# Altium footprint library MCU_FOR_DOWNLOAD_V6_1_PCS.PcbLib: 16 footprints
Each footprint in its own frame and in the unit in brackets; x right, y up, seen from the top. Pads: shape width x height; smd on the part's side, far side on the other; paste and mask are expansions set on the pad; w line width, h text height; cw(c..) or ccw(c..) is an arc to the next point about the centre after c.
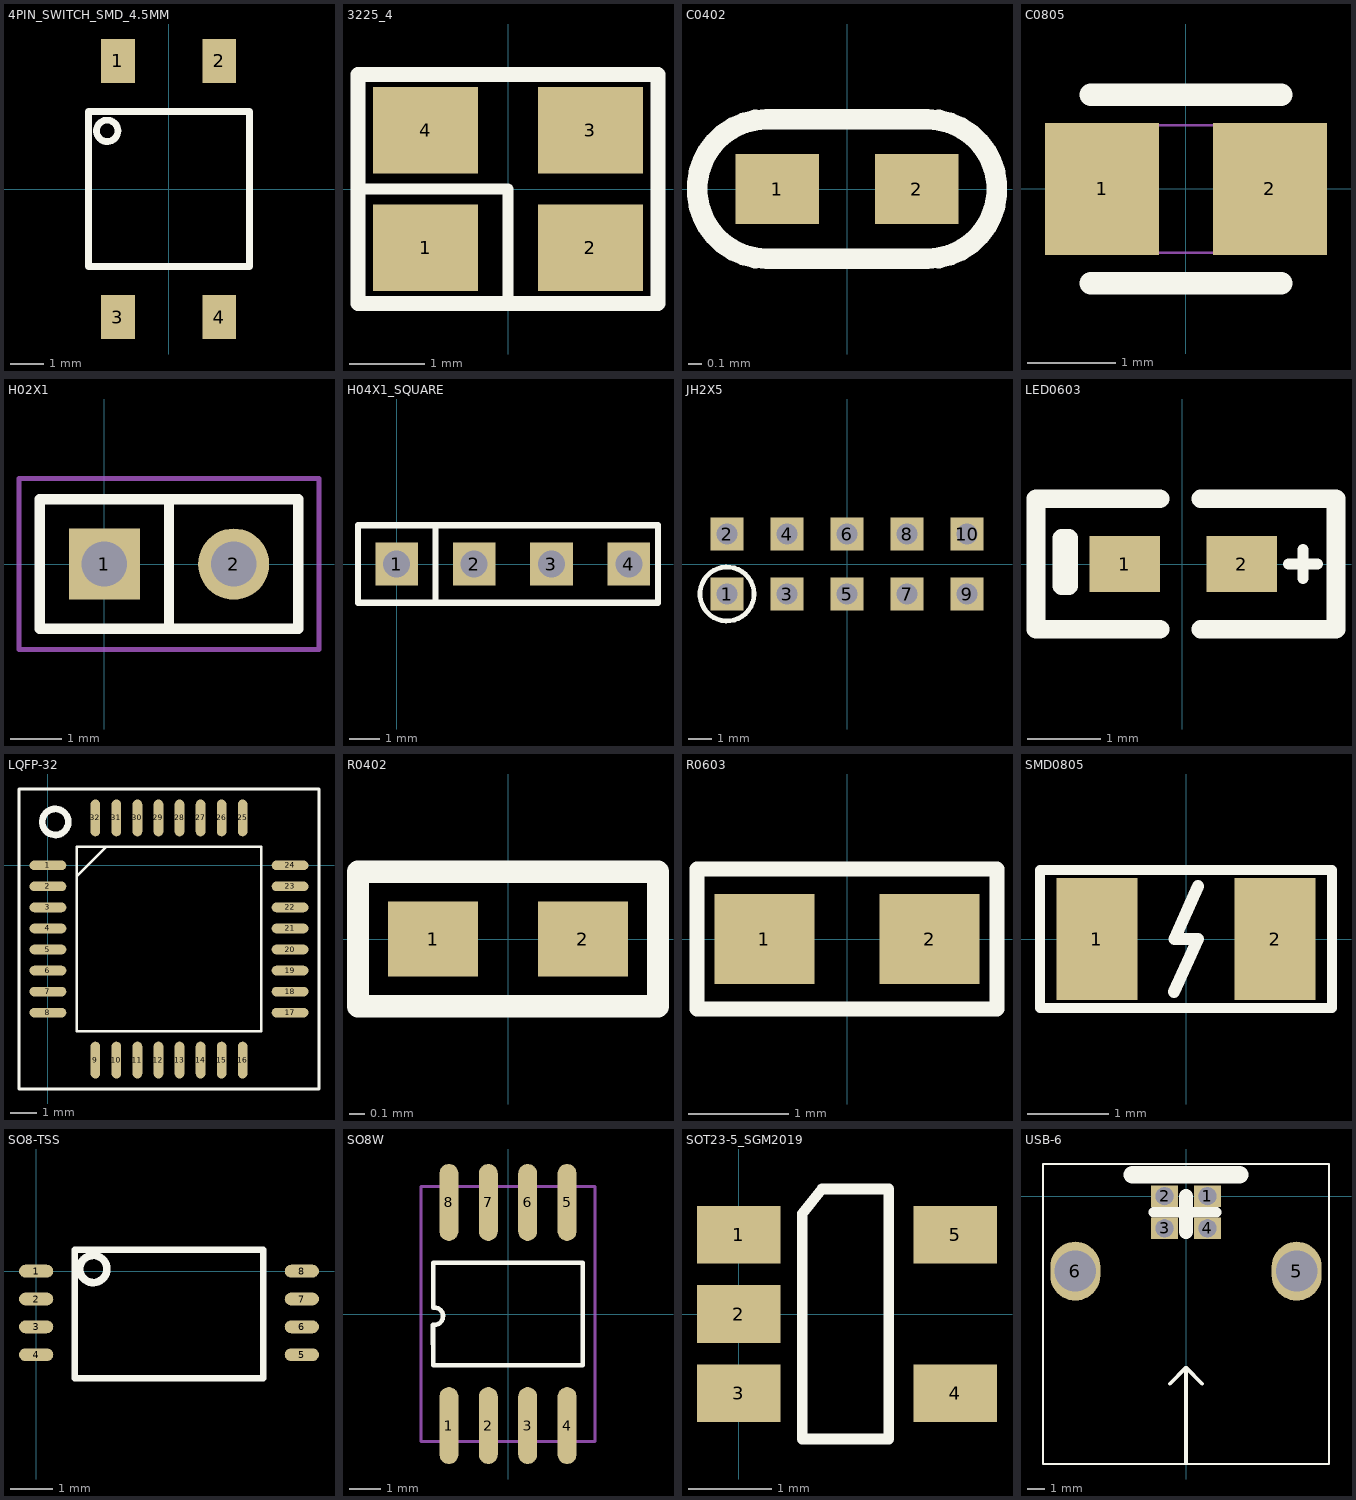
[diagram p0: the footprints below, top view; thin cyan lines are the x and y axes]

## 4PIN_SWITCH_SMD_4.5MM [mm]
pads (4):
  rect 1x1.3 smd: 1(-1.5,3.8) 2(1.5,3.8) 3(-1.5,-3.8) 4(1.5,-3.8)
Top Overlay:
  circle w0.2: c-1.819,1.725 r0.318
  lines w0.2: -2.373,-2.3 -2.373,2.3 2.4,2.3 2.4,-2.3 -2.373,-2.3

## 3225_4 [mm]
pads (4):
  rect 1.4x1.15 smd: 1(-1.1,-0.782) 2(1.1,-0.782) 3(1.1,0.782) 4(-1.1,0.782)
Top Overlay:
  lines w0.15: -2,0 0,0 0,-1.5
  lines w0.2: -2,-1.524 -2,1.524 2,1.524 2,-1.524 -2,-1.524

## C0402 [mm]
pads (2):
  rect 0.6x0.5 smd: 1(-0.5,0) 2(0.5,0)
Top Overlay:
  lines w0.15: -0.575,-0.5 cw(c-0.575,0) -0.575,0.5 0.575,0.5 cw(c0.575,0) 0.575,-0.5 -0.575,-0.5

## C0805 [mm]
pads (2):
  rect 1.295x1.499 smd: 1(-0.952,0) 2(0.952,0)
Top Overlay:
  lines w0.254: -1.08,-1.067 1.08,-1.067 ; -1.08,1.067 1.08,1.067
Mechanical 16:
  lines w0.025: -1.105,-0.724 1.105,-0.724 1.105,0.724 -1.105,0.724 -1.105,-0.724

## H02X1 [mil]
pads (2):
  rect 55x55 / inner round 55 / far side rect 55x55 hole 35: 1(0,0)
  round 55 hole 35: 2(100,0)
Top Overlay:
  lines w8: 50,-50 50,50 ; -50,-50 150,-50 150,50 -50,50 -50,-50
Mechanical 1:
  lines w4: -66,-66 166,-66 166,66.05 -66,66.05 -66,-66
Mechanical 2:
  lines w4: -66,-66 166,-66 166,66.05 -66,66.05 -66,-66

## H04X1_SQUARE [mil]
pads (4):
  rect 55x55 hole 35: 1(0,0) 2(100,0) 3(200,0) 4(300,0)
Top Overlay:
  lines w8: 50,-50 50,50 ; -50,-50 337.64,-50 337.64,50 -50,50 -50,-50

## JH2X5 [mil]
pads (10):
  rect 55x55 hole 35: 1(-200,-50) 2(-200,50) 3(-100,-50) 4(-100,50) 5(0,-50) 6(0,50) 7(100,-50) 8(100,50) 9(200,-50) 10(200,50)
Top Overlay:
  circle w8: c-200,-50 r45
Bottom Overlay:
  lines w8: -250,-100 250,-100 250,100 -250,100 -250,-100

## LED0603 [mil]
pads (2):
  rect 38x30 smd paste+1.18 mask+1.18: 1(-31,0) 2(31.99,0)
Top Overlay:
  lines w5.91: 57.09,0 72.83,0 ; 64.96,-7.87 64.96,7.87
  lines w10: -12,-35 -78.74,-35 -78.74,35 -12,35 ; 9.94,-35 82.68,-35 82.68,35 9.94,35 ; -64.96,-11.81 -64.96,13.78 -61.02,13.78 -61.02,-11.81 -64.96,-11.81

## LQFP-32 [mm]
pads (32):
  oval 1.4x0.37 smd: 1(0,0) 2(0,-0.8) 3(0,-1.6) 4(0,-2.4) 5(0,-3.2) 6(0,-4) 7(0,-4.8) 8(0,-5.6) 17(9.2,-5.6) 18(9.2,-4.8) 19(9.2,-4) 20(9.2,-3.2) 21(9.2,-2.4) 22(9.2,-1.6) 23(9.2,-0.8) 24(9.2,0)
  oval 0.37x1.4 smd: 9(1.8,-7.4) 10(2.6,-7.4) 11(3.4,-7.4) 12(4.2,-7.4) 13(5,-7.4) 14(5.8,-7.4) 15(6.6,-7.4) 16(7.4,-7.4) 25(7.4,1.8) 26(6.6,1.8) 27(5.8,1.8) 28(5,1.8) 29(4.2,1.8) 30(3.4,1.8) 31(2.6,1.8) 32(1.8,1.8)
Top Overlay:
  circle w0.254: c0.278,1.649 r0.495
  lines w0.102: 1.1,0.7 1.1,-6.3 8.1,-6.3 8.1,0.7 1.1,0.7 ; 1.1,0.7 2.2,0.7 1.1,-0.4 1.1,0.7 ; -1.1,-8.5 10.3,-8.5 10.3,2.9 -1.1,2.9 -1.1,-8.5

## R0402 [mm]
pads (2):
  rect 0.6x0.5 smd: 1(-0.5,0) 2(0.5,0)
Top Overlay:
  lines w0.15: -1,-0.45 -1,0.45 1,0.45 1,-0.45 -1,-0.45

## R0603 [mm]
pads (2):
  rect 1x0.9 smd: 1(-0.826,0) 2(0.826,0)
Top Overlay:
  lines w0.15: -1.5,-0.7 1.5,-0.7 1.5,0.7 -1.5,0.7 -1.5,-0.7

## SMD0805 [mm]
pads (2):
  rect 1x1.5 smd paste-0.1 mask-0.1: 1(-1.1,0) 2(1.1,0)
Top Overlay:
  lines w0.127: -1.8,-0.85 1.8,-0.85 1.8,0.85 -1.8,0.85 -1.8,-0.85
  lines w0.15: -0.15,-0.65 0.15,0 -0.14,0 0.15,0.65

## SO8-TSS [mm]
pads (8):
  oval 0.8x0.3 smd: 1(0,0) 2(0,-0.65) 3(0,-1.3) 4(0,-1.95) 5(6.2,-1.95) 6(6.2,-1.3) 7(6.2,-0.65) 8(6.2,0)
Top Overlay:
  circle w0.178: c1.333,0.051 r0.318
  lines w0.152: 0.9,-2.5 0.9,0.5 5.3,0.5 5.3,-2.5 0.9,-2.5

## SO8W [mm]
pads (8):
  oval 0.61x2.48 smd paste-0.3 mask-0.3: 1(-1.905,-3.6) 2(-0.635,-3.6) 3(0.635,-3.6) 4(1.905,-3.6) 5(1.905,3.6) 6(0.635,3.6) 7(-0.635,3.6) 8(-1.905,3.6)
Top Overlay:
  lines w0.15: -2.42,-0.345 ccw(c-2.373,-0.071) -2.413,0.205 -2.413,1.651 2.413,1.651 2.413,-1.651 -2.413,-1.651 -2.42,-0.345
Mechanical 1:
  lines w0.102: -2.807,-4.115 2.807,-4.115 2.807,4.115 -2.807,4.115 -2.807,-4.115

## SOT23-5_SGM2019 [mm]
pads (5):
  rect 1x0.69 smd: 1(0,0.95) 2(0,0) 3(0,-0.95) 4(2.6,-0.95) 5(2.6,0.95)
Top Overlay:
  lines w0.127: 0.762,-1.5 0.762,1.204 1,1.5 1.8,1.5 1.8,-1.5 0.762,-1.5

## USB-6 [mm]
pads (6):
  rect 1.5x1.2 / inner rect 0x0 / far side rect 1.5x1.2 hole 1: 1(1.2,0) 2(-1.2,0) 3(-1.2,-1.8) 4(1.2,-1.8)
  oval 2.8x3.3 / inner round 0 / far side oval 2.8x3.3 hole 2.3: 5(6.2,-4.2) 6(-6.2,-4.2)
Top Overlay:
  lines w0.102: -8,-15 8,-15 8,1.8 -8,1.8 -8,-15
  lines w0.2: -0.9,-10.5 0,-9.6 ; 0,-14.9 0,-9.6 ; 0.9,-10.5 0,-9.6
  lines w0.6: -1.8,-0.9 1.7,-0.9
  lines w0.8: 0,-2 0,0
  lines w1: -3,1.2 3,1.2
Bottom Overlay:
  lines w0.6: -1.82,-0.9 1.68,-0.9
  lines w0.8: -0.02,-2 -0.02,0